# EAGLE library part MOLEX_52465-1870 (library Molex 52465-1870)
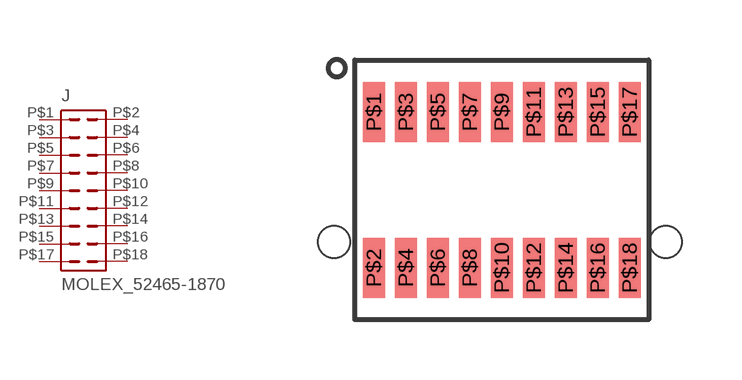
[diagram p0: symbol with the pads of MOLEX_52465-1870; footprint MOLEX_52465-1870]

Designator prefix J

## MOLEX_52465-1870  [MOLEX_52465-1870]
P$1  1  pas
P$2  2  pas
P$3  3  pas
P$4  4  pas
P$5  5  pas
P$6  6  pas
P$7  7  pas
P$8  8  pas
P$9  9  pas
P$10  10  pas
P$11  11  pas
P$12  12  pas
P$13  13  pas
P$14  14  pas
P$15  15  pas
P$16  16  pas
P$17  17  pas
P$18  18  pas

## Footprint MOLEX_52465-1870 (pad centres in mm)
smd 0.55 x 1.5: P$1 -3.2,1.95; P$2 -3.2,-1.95; P$3 -2.4,1.95; P$4 -2.4,-1.95; P$5 -1.6,1.95; P$6 -1.6,-1.95; P$7 -0.8,1.95; P$8 -0.8,-1.95; P$9 0,1.95; P$10 0,-1.95; P$11 0.8,1.95; P$12 0.8,-1.95; P$13 1.6,1.95; P$14 1.6,-1.95; P$15 2.4,1.95; P$16 2.4,-1.95; P$17 3.2,1.95; P$18 3.2,-1.95
hole 0.8 at -4.2,-1.3
hole 0.8 at 4.1,-1.3